# Altium footprint library SnapEDApcb.PcbLib: 1 footprints
Each footprint in its own frame and in the unit in brackets; x right, y up, seen from the top. Pads: shape width x height; smd on the part's side, far side on the other; paste and mask are expansions set on the pad; w line width, h text height; cw(c..) or ccw(c..) is an arc to the next point about the centre after c.
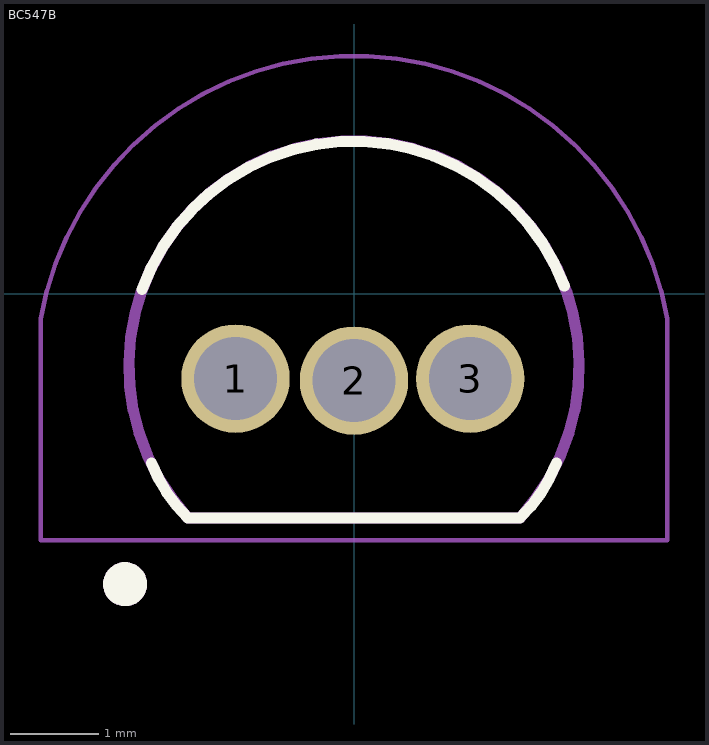
[diagram p0: the footprint, top view; thin cyan lines are the x and y axes]

## BC547B [mil]
pads (3):
  round 48.51 hole 37.01: 1(-53,-38) 2(0,-38.88) 3(52,-38)
Top Overlay:
  circle w11.81: c-102.36,-129.92 r3.94
  lines w5: -94.86,1.83 cw(c-0.09,-32.66) 94.06,3.48 ; -90.6,-75.67 ccw(c-27.08,-51.29) -74.34,-100.23 ; -74.25,-100.31 74.25,-100.31 ; 74.29,-100.28 ccw(c27.06,-51.38) 90.53,-75.74
Mechanical 13:
  circle w11.81: c-102.36,-129.92 r3.94
  lines w5: -74.84,-99.66 cw(c0,-32.28) 74.84,-99.66 ; -74.25,-100.31 74.25,-100.31
Mechanical 15:
  lines w1.97: -140.16,-110.24 -140.16,-11.22 cw(c0,-35.93) 140.16,-11.22 140.16,-110.24 -140.16,-110.24
3D body "BC547A.STEP": height 220.24, standoff -490, extent -94.98,-132.44 94.98,12.45